# Altium integrated library Analog Devices Data Converters Digital-to-Analog Converters.IntLib: 2231 symbols (part 157 of 181)
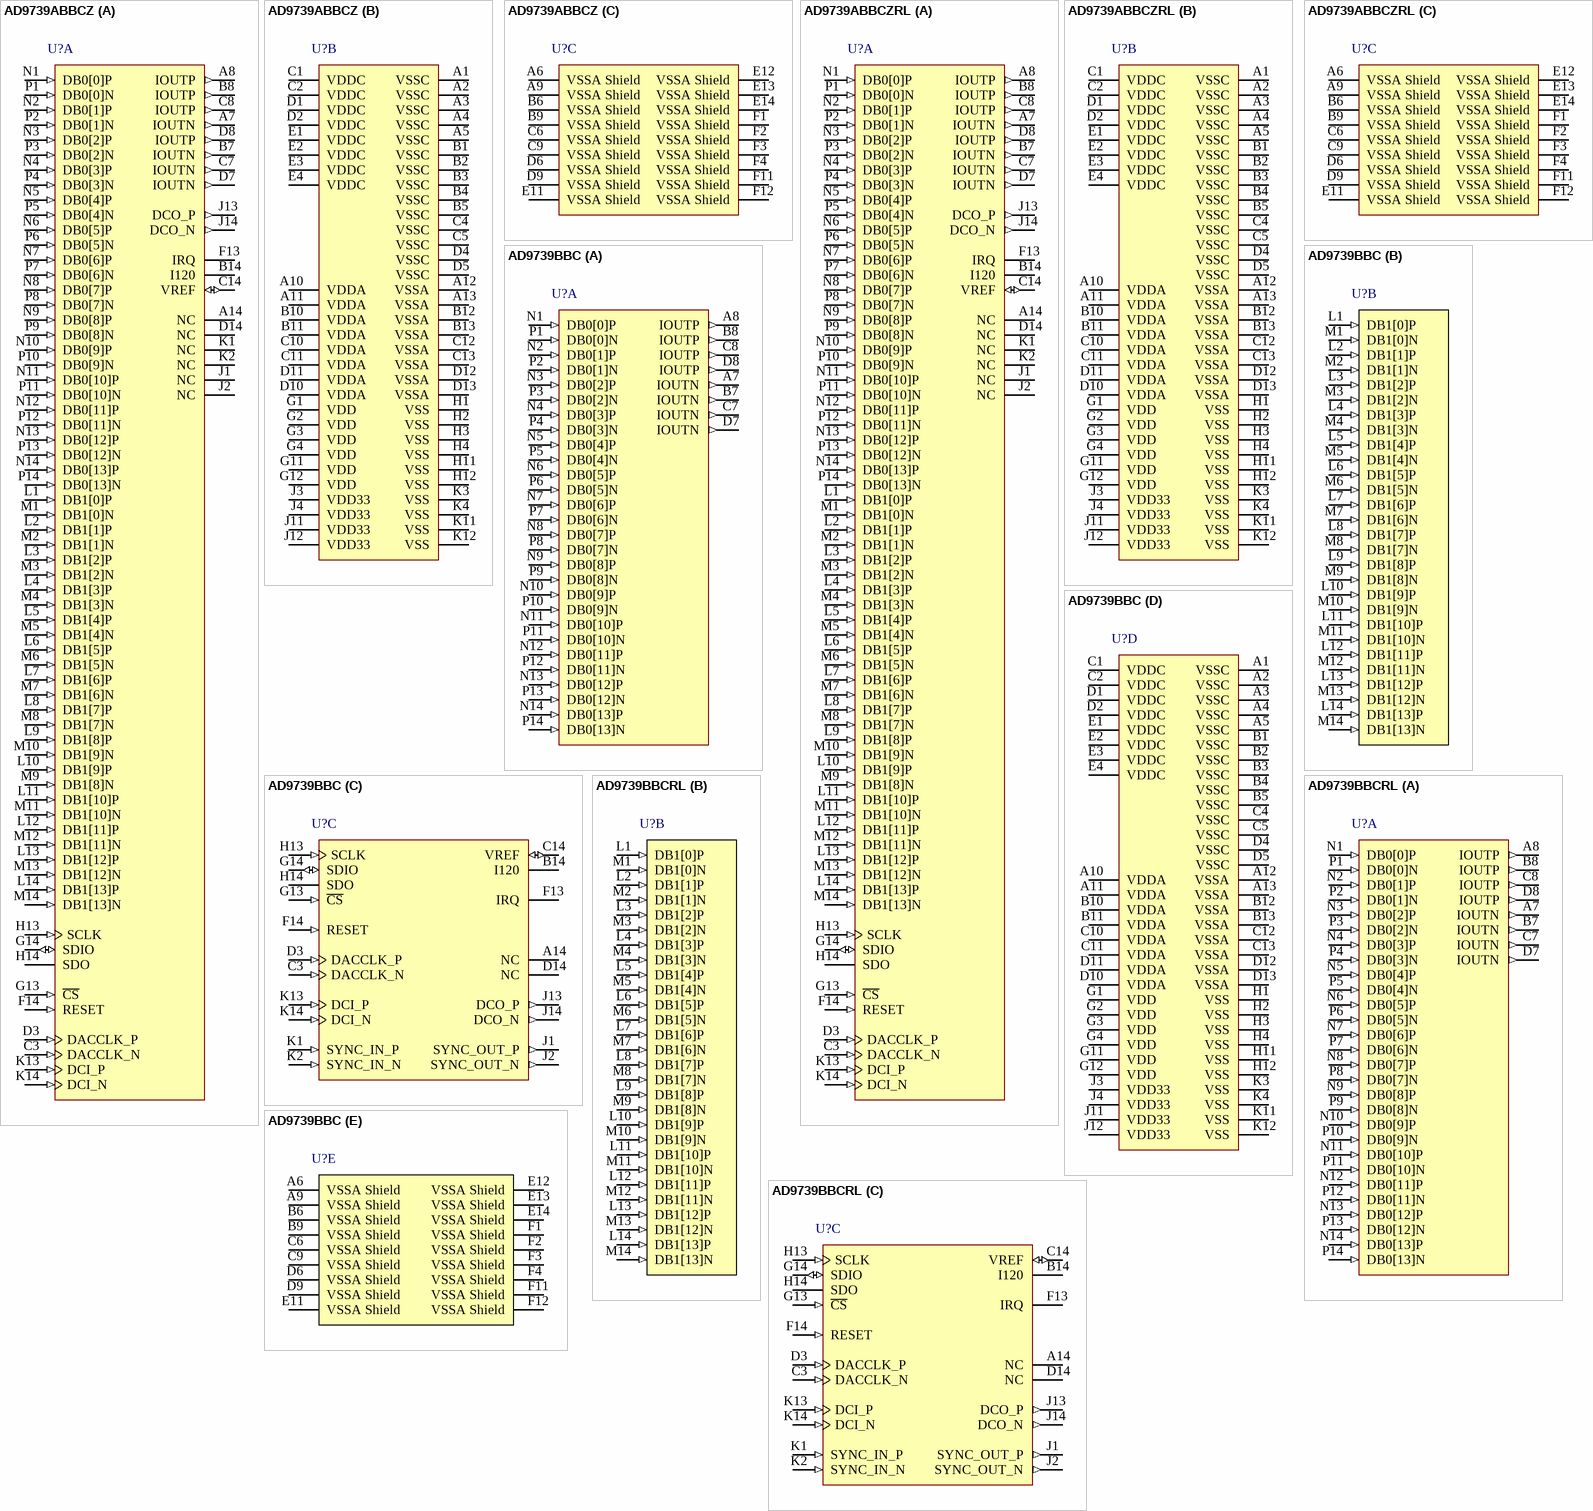
[diagram p270: symbols AD9739ABBCZ to AD9739BBCRL]

## AD9739ABBCZRL
designator U?
Single 14-Bit 2.5 Gsps RF Digital-to-Analog Converter, -40 to +85 degC, BC-160-1, Pb-Free, Reel; Generic Part Number: AD9739A; Manufacturer: Analog Devices; PartNumber: AD9739ABBCZRL; # DAC Outputs: 1; Op Pwr Diss: 960mW; Resolution (Bits): 14; Single Supply: No; DatasheetVersion: Rev.C; PackageVersion: 012006-0; PackageReference: BC-160-1; PackageDescription: 160-Ball Chip Scale Package Ball Grid Array [CSP_BGA]; Supplier 1: Digi-Key; Supplier Part Number 1: AD9739ABBCZRL-ND; Supplier 2: Mouser; Supplier Part Number 2: 584-AD9739ABBCZR; Packing: Reel; RoHS: Y; Mounting Technology: Surface Mount; Code_JEDEC: MO-205-AE; ComponentLink1Description: Manufacturer URL; ComponentLink1URL: http://www.analog.com/en/index.html; ComponentLink2Description: Datasheet; ComponentLink2URL: http://www.analog.com/static/imported-files/data_sheets/AD9737A_9739A.pdf; ComponentLink3Description: Package Specification; ComponentLink3URL: http://www.analog.com/static/imported-files/packages/31243239490197BC_160_1.pdf; ComponentLink4Description: Product URL; ComponentLink4URL: http://www.analog.com/en/digital-to-analog-converters/da-converters/ad9739a/products/product.html
footprint BC-160-1 (BGA, 160-Leads, Body 12x12mm, Pitch 0.8mm)
part A pins: A7 IOUTN (out) "DAC Negative Current Output Source.", A8 IOUTP (out) "DAC Positive Current Output Source.", A14 NC "Do not connect to this pin.", B7 IOUTN (out) "DAC Negative Current Output Source.", B8 IOUTP (out) "DAC Positive Current Output Source.", B14 I120 "Nominal 1.2 V Reference. Tie to analog ground via a 10 k ohm resistor to generate a 120 uA reference current.", C3 DACCLK_N (in) "Negative DAC Clock Input (DACCLK).", C7 IOUTN (out) "DAC Negative Current Output Source.", C8 IOUTP (out) "DAC Positive Current Output Source.", C14 VREF (io) "Voltage Reference Input/Output. Decouple to VSSA with a 1 nF capacitor.", D3 DACCLK_P (in) "Positive DAC Clock Input (DACCLK).", D7 IOUTN (out) "DAC Negative Current Output Source.", D8 IOUTP (out) "DAC Positive Current Output Source.", D14 NC "Factory Test Pin. Do not connect to this pin.", F13 IRQ (oc) "Interrupt Request Open Drain Output. Active high. Pull up to VDD33 with a 10 k ohm resistor.", F14 RESET (in) "Reset Input. Active high. Tie to VSS if unused.", G13 ~{CS} (in) "Serial Port Enable Input.", G14 SDIO (io) "Serial Port Data Input/Output.", H13 SCLK (in) "Serial Port Clock Input.", H14 SDO (hiz) "Serial Port Data Output.", J1 NC "Differential resistor of 200 ohm exists between J1 and J2. Do not connect to this pin.", J2 NC "Differential resistor of 200 ohm exists between J1 and J2. Do not connect to this pin.", J13 DCO_P (out) "Positive Data Clock Output (DCO).", J14 DCO_N (out) "Negative Data Clock Output (DCO).", K1 NC "Differential resistor of 100 ohm exists between K1 and K2. Do not connect to this pin.", K2 NC "Differential resistor of 100 ohm exists between K1 and K2. Do not connect to this pin.", K13 DCI_P (in) "Positive Data Clock Input (DCI).", K14 DCI_N (in) "Negative Data Clock Input (DCI).", L1 DB1[0]P (in) "Port 1 Positive Data Input Bit 0.", L2 DB1[1]P (in) "Port 1 Positive Data Input Bit 1.", L3 DB1[2]P (in) "Port 1 Positive Data Input Bit 2.", L4 DB1[3]P (in) "Port 1 Positive Data Input Bit 3.", L5 DB1[4]P (in) "Port 1 Positive Data Input Bit 4.", L6 DB1[5]P (in) "Port 1 Positive Data Input Bit 5.", L7 DB1[6]P (in) "Port 1 Positive Data Input Bit 6.", L8 DB1[7]P (in) "Port 1 Positive Data Input Bit 7.", L9 DB1[8]P (in) "Port 1 Positive Data Input Bit 8.", L10 DB1[9]P (in) "Port 1 Positive Data Input Bit 9.", L11 DB1[10]P (in) "Port 1 Positive Data Input Bit 10.", L12 DB1[11]P (in) "Port 1 Positive Data Input Bit 11.", L13 DB1[12]P (in) "Port 1 Positive Data Input Bit 12.", L14 DB1[13]P (in) "Port 1 Positive Data Input Bit 13.", M1 DB1[0]N (in) "Port 1 Negative Data Input Bit 0.", M2 DB1[1]N (in) "Port 1 Negative Data Input Bit 1.", M3 DB1[2]N (in) "Port 1 Negative Data Input Bit 2.", M4 DB1[3]N (in) "Port 1 Negative Data Input Bit 3.", M5 DB1[4]N (in) "Port 1 Negative Data Input Bit 4.", M6 DB1[5]N (in) "Port 1 Negative Data Input Bit 5.", M7 DB1[6]N (in) "Port 1 Negative Data Input Bit 6.", M8 DB1[7]N (in) "Port 1 Negative Data Input Bit 7.", M9 DB1[8]N (in) "Port 1 Negative Data Input Bit 8.", M10 DB1[9]N (in) "Port 1 Negative Data Input Bit 9.", M11 DB1[10]N (in) "Port 1 Negative Data Input Bit 10.", M12 DB1[11]N (in) "Port 1 Negative Data Input Bit 11.", M13 DB1[12]N (in) "Port 1 Negative Data Input Bit 12.", M14 DB1[13]N (in) "Port 1 Negative Data Input Bit 13.", N1 DB0[0]P (in) "Port 0 Positive Data Input Bit 0.", N2 DB0[1]P (in) "Port 0 Positive Data Input Bit 1.", N3 DB0[2]P (in) "Port 0 Positive Data Input Bit 2.", N4 DB0[3]P (in) "Port 0 Positive Data Input Bit 3.", N5 DB0[4]P (in) "Port 0 Positive Data Input Bit 4.", N6 DB0[5]P (in) "Port 0 Positive Data Input Bit 5.", N7 DB0[6]P (in) "Port 0 Positive Data Input Bit 6.", N8 DB0[7]P (in) "Port 0 Positive Data Input Bit 7.", N9 DB0[8]P (in) "Port 0 Positive Data Input Bit 8.", N10 DB0[9]P (in) "Port 0 Positive Data Input Bit 9.", N11 DB0[10]P (in) "Port 0 Positive Data Input Bit 10.", N12 DB0[11]P (in) "Port 0 Positive Data Input Bit 11.", N13 DB0[12]P (in) "Port 0 Positive Data Input Bit 12.", N14 DB0[13]P (in) "Port 0 Positive Data Input Bit 13.", P1 DB0[0]N (in) "Port 0 Negative Data Input Bit 0.", P2 DB0[1]N (in) "Port 0 Negative Data Input Bit 1.", P3 DB0[2]N (in) "Port 0 Negative Data Input Bit 2.", P4 DB0[3]N (in) "Port 0 Negative Data Input Bit 3.", P5 DB0[4]N (in) "Port 0 Negative Data Input Bit 4.", P6 DB0[5]N (in) "Port 0 Negative Data Input Bit 5.", P7 DB0[6]N (in) "Port 0 Negative Data Input Bit 6.", P8 DB0[7]N (in) "Port 0 Negative Data Input Bit 7.", P9 DB0[8]N (in) "Port 0 Negative Data Input Bit 8.", P10 DB0[9]N (in) "Port 0 Negative Data Input Bit 9.", P11 DB0[10]N (in) "Port 0 Negative Data Input Bit 10.", P12 DB0[11]N (in) "Port 0 Negative Data Input Bit 11.", P13 DB0[12]N (in) "Port 0 Negative Data Input Bit 12.", P14 DB0[13]N (in) "Port 0 Negative Data Input Bit 13."
part B pins: A1 VSSC (power) "Clock Supply Ground.", A2 VSSC (power) "Clock Supply Ground.", A3 VSSC (power) "Clock Supply Ground.", A4 VSSC (power) "Clock Supply Ground.", A5 VSSC (power) "Clock Supply Ground.", A10 VDDA (power) "3.3 V Analog Supply Input.", A11 VDDA (power) "3.3 V Analog Supply Input.", A12 VSSA (power) "Analog Supply Ground.", A13 VSSA (power) "Analog Supply Ground.", B1 VSSC (power) "Clock Supply Ground.", B2 VSSC (power) "Clock Supply Ground.", B3 VSSC (power) "Clock Supply Ground.", B4 VSSC (power) "Clock Supply Ground.", B5 VSSC (power) "Clock Supply Ground.", B10 VDDA (power) "3.3 V Analog Supply Input.", B11 VDDA (power) "3.3 V Analog Supply Input.", B12 VSSA (power) "Analog Supply Ground.", B13 VSSA (power) "Analog Supply Ground.", C1 VDDC (power) "1.8 V Clock Supply Input.", C2 VDDC (power) "1.8 V Clock Supply Input.", C4 VSSC (power) "Clock Supply Ground.", C5 VSSC (power) "Clock Supply Ground.", C10 VDDA (power) "3.3 V Analog Supply Input.", C11 VDDA (power) "3.3 V Analog Supply Input.", C12 VSSA (power) "Analog Supply Ground.", C13 VSSA (power) "Analog Supply Ground.", D1 VDDC (power) "1.8 V Clock Supply Input.", D2 VDDC (power) "1.8 V Clock Supply Input.", D4 VSSC (power) "Clock Supply Ground.", D5 VSSC (power) "Clock Supply Ground.", D10 VDDA (power) "3.3 V Analog Supply Input.", D11 VDDA (power) "3.3 V Analog Supply Input.", D12 VSSA (power) "Analog Supply Ground.", D13 VSSA (power) "Analog Supply Ground.", E1 VDDC (power) "1.8 V Clock Supply Input.", E2 VDDC (power) "1.8 V Clock Supply Input.", E3 VDDC (power) "1.8 V Clock Supply Input.", E4 VDDC (power) "1.8 V Clock Supply Input.", G1 VDD (power) "1.8 V Digital Supply Input.", G2 VDD (power) "1.8 V Digital Supply Input.", G3 VDD (power) "1.8 V Digital Supply Input.", G4 VDD (power) "1.8 V Digital Supply Input.", G11 VDD (power) "1.8 V Digital Supply Input.", G12 VDD (power) "1.8 V Digital Supply Input.", H1 VSS (power) "Digital Supply Ground.", H2 VSS (power) "Digital Supply Ground.", H3 VSS (power) "Digital Supply Ground.", H4 VSS (power) "Digital Supply Ground.", H11 VSS (power) "Digital Supply Ground.", H12 VSS (power) "Digital Supply Ground.", J3 VDD33 (power) "3.3 V Digital Supply Input.", J4 VDD33 (power) "3.3 V Digital Supply Input.", J11 VDD33 (power) "3.3 V Digital Supply Input.", J12 VDD33 (power) "3.3 V Digital Supply Input.", K3 VSS (power) "Digital Supply Ground.", K4 VSS (power) "Digital Supply Ground.", K11 VSS (power) "Digital Supply Ground.", K12 VSS (power) "Digital Supply Ground."
part C pins: A6 VSSA Shield (power) "Analog Supply Ground Shield. Tie to VSSA at the DAC.", A9 VSSA Shield (power) "Analog Supply Ground Shield. Tie to VSSA at the DAC.", B6 VSSA Shield (power) "Analog Supply Ground Shield. Tie to VSSA at the DAC.", B9 VSSA Shield (power) "Analog Supply Ground Shield. Tie to VSSA at the DAC.", C6 VSSA Shield (power) "Analog Supply Ground Shield. Tie to VSSA at the DAC.", C9 VSSA Shield (power) "Analog Supply Ground Shield. Tie to VSSA at the DAC.", D6 VSSA Shield (power) "Analog Supply Ground Shield. Tie to VSSA at the DAC.", D9 VSSA Shield (power) "Analog Supply Ground Shield. Tie to VSSA at the DAC.", E11 VSSA Shield (power) "Analog Supply Ground Shield. Tie to VSSA at the DAC.", E12 VSSA Shield (power) "Analog Supply Ground Shield. Tie to VSSA at the DAC.", E13 VSSA Shield (power) "Analog Supply Ground Shield. Tie to VSSA at the DAC.", E14 VSSA Shield (power) "Analog Supply Ground Shield. Tie to VSSA at the DAC.", F1 VSSA Shield (power) "Analog Supply Ground Shield. Tie to VSSA at the DAC.", F2 VSSA Shield (power) "Analog Supply Ground Shield. Tie to VSSA at the DAC.", F3 VSSA Shield (power) "Analog Supply Ground Shield. Tie to VSSA at the DAC.", F4 VSSA Shield (power) "Analog Supply Ground Shield. Tie to VSSA at the DAC.", F11 VSSA Shield (power) "Analog Supply Ground Shield. Tie to VSSA at the DAC.", F12 VSSA Shield (power) "Analog Supply Ground Shield. Tie to VSSA at the DAC."

## AD9739BBC
designator U?
Single 14-Bit 2.5 Gsps RF Digital-to-Analog Converter, -40 to +85 degC, BC-160-1, Tray; Generic Part Number: AD9739; Manufacturer: Analog Devices; PartNumber: AD9739BBC; # DAC Outputs: 1; Max V+: 3.5V; Op Pwr Diss: 1.16W; Resolution (Bits): 14; Single Supply: Yes; DatasheetVersion: Rev.B; PackageVersion: 012006-0; PackageReference: BC-160-1; PackageDescription: 160-Ball Chip Scale Package Ball Grid Array [CSP_BGA]; Supplier 1: Digi-Key; Supplier Part Number 1: AD9739BBC-ND; Supplier 2: Newark; Supplier Part Number 2: 05R6611; Supplier 3: Mouser; Supplier Part Number 3: 584-AD9739BBC; Packing: Tray; RoHS: N; Mounting Technology: Surface Mount; Code_JEDEC: MO-205-AE; ComponentLink1Description: Manufacturer URL; ComponentLink1URL: http://www.analog.com/en/index.html; ComponentLink2Description: Datasheet; ComponentLink2URL: http://www.analog.com/static/imported-files/data_sheets/AD9739.pdf; ComponentLink3Description: Package Specification; ComponentLink3URL: http://www.analog.com/static/imported-files/packages/31243239490197BC_160_1.pdf; ComponentLink4Description: Product URL; ComponentLink4URL: http://www.analog.com/en/digital-to-analog-converters/da-converters/ad9739/products/product.html
footprint BC-160-1 (BGA, 160-Leads, Body 12x12mm, Pitch 0.8mm)
part A pins: A7 IOUTN (out) "DAC Negative Current Output Source.", A8 IOUTP (out) "DAC Positive Current Output Source.", B7 IOUTN (out) "DAC Negative Current Output Source.", B8 IOUTP (out) "DAC Positive Current Output Source.", C7 IOUTN (out) "DAC Negative Current Output Source.", C8 IOUTP (out) "DAC Positive Current Output Source.", D7 IOUTN (out) "DAC Negative Current Output Source.", D8 IOUTP (out) "DAC Positive Current Output Source.", N1 DB0[0]P (in) "Port 0 Positive Data Input Bit 0.", N2 DB0[1]P (in) "Port 0 Positive Data Input Bit 1.", N3 DB0[2]P (in) "Port 0 Positive Data Input Bit 2.", N4 DB0[3]P (in) "Port 0 Positive Data Input Bit 3.", N5 DB0[4]P (in) "Port 0 Positive Data Input Bit 4.", N6 DB0[5]P (in) "Port 0 Positive Data Input Bit 5.", N7 DB0[6]P (in) "Port 0 Positive Data Input Bit 6.", N8 DB0[7]P (in) "Port 0 Positive Data Input Bit 7.", N9 DB0[8]P (in) "Port 0 Positive Data Input Bit 8.", N10 DB0[9]P (in) "Port 0 Positive Data Input Bit 9.", N11 DB0[10]P (in) "Port 0 Positive Data Input Bit 10.", N12 DB0[11]P (in) "Port 0 Positive Data Input Bit 11.", N13 DB0[12]P (in) "Port 0 Positive Data Input Bit 12.", N14 DB0[13]P (in) "Port 0 Negative Data Input Bit 13.", P1 DB0[0]N (in) "Port 0 Negative Data Input Bit 0.", P2 DB0[1]N (in) "Port 0 Negative Data Input Bit 1.", P3 DB0[2]N (in) "Port 0 Negative Data Input Bit 2.", P4 DB0[3]N (in) "Port 0 Negative Data Input Bit 3.", P5 DB0[4]N (in) "Port 0 Negative Data Input Bit 4.", P6 DB0[5]N (in) "Port 0 Negative Data Input Bit 5.", P7 DB0[6]N (in) "Port 0 Negative Data Input Bit 6.", P8 DB0[7]N (in) "Port 0 Negative Data Input Bit 7.", P9 DB0[8]N (in) "Port 0 Negative Data Input Bit 8.", P10 DB0[9]N (in) "Port 0 Negative Data Input Bit 9.", P11 DB0[10]N (in) "Port 0 Negative Data Input Bit 10.", P12 DB0[11]N (in) "Port 0 Negative Data Input Bit 11.", P13 DB0[12]N (in) "Port 0 Negative Data Input Bit 12.", P14 DB0[13]N (in) "Port 0 Negative Data Input Bit 13."
part B pins: L1 DB1[0]P (in) "Port 1 Positive Data Input Bit 0.", L2 DB1[1]P (in) "Port 1 Positive Data Input Bit 1.", L3 DB1[2]P (in) "Port 1 Positive Data Input Bit 2.", L4 DB1[3]P (in) "Port 1 Positive Data Input Bit 3.", L5 DB1[4]P (in) "Port 1 Positive Data Input Bit 4.", L6 DB1[5]P (in) "Port 1 Positive Data Input Bit 5.", L7 DB1[6]P (in) "Port 1 Positive Data Input Bit 6.", L8 DB1[7]P (in) "Port 1 Positive Data Input Bit 7.", L9 DB1[8]P (in) "Port 1 Positive Data Input Bit 8.", L10 DB1[9]P (in) "Port 1 Positive Data Input Bit 9.", L11 DB1[10]P (in) "Port 1 Positive Data Input Bit 10.", L12 DB1[11]P (in) "Port 1 Positive Data Input Bit 11.", L13 DB1[12]P (in) "Port 1 Positive Data Input Bit 12.", L14 DB1[13]P (in) "Port 1 Positive Data Input Bit 13.", M1 DB1[0]N (in) "Port 1 Negative Data Input Bit 0.", M2 DB1[1]N (in) "Port 1 Negative Data Input Bit 1.", M3 DB1[2]N (in) "Port 1 Negative Data Input Bit 2.", M4 DB1[3]N (in) "Port 1 Negative Data Input Bit 3.", M5 DB1[4]N (in) "Port 1 Negative Data Input Bit 4.", M6 DB1[5]N (in) "Port 1 Negative Data Input Bit 5.", M7 DB1[6]N (in) "Port 1 Negative Data Input Bit 6.", M8 DB1[7]N (in) "Port 1 Negative Data Input Bit 7.", M9 DB1[8]N (in) "Port 1 Negative Data Input Bit 8.", M10 DB1[9]N (in) "Port 1 Negative Data Input Bit 9.", M11 DB1[10]N (in) "Port 1 Negative Data Input Bit 10.", M12 DB1[11]N (in) "Port 1 Negative Data Input Bit 11.", M13 DB1[12]N (in) "Port 1 Negative Data Input Bit 12.", M14 DB1[13]N (in) "Port 1 Negative Data Input Bit 13."
part C pins: A14 NC "No Connect. Do not connect to this pin.", B14 I120 "Nominal 1.2 V Reference. Tie to analog ground via a 10 kO  resistor to generate a 120 uA reference current.", C3 DACCLK_N (in) "Negative DAC Clock Input (DACCLK)", C14 VREF (io) "Voltage Reference Input/Output. Decouple to VSSA with a  1 nF capacitor.", D3 DACCLK_P (in) "Positive DAC Clock Input (DACCLK)", D14 NC "Factory Test Pin. Do not connect to this pin.", F13 IRQ (oc) "Interrupt Request Open Drain Output. Active high. Pull up to  VDD33 with a 10 kO resistor.", F14 RESET (in) "Reset Input. Active high. Tie to VSS if unused.", G13 ~{CS} (in) "Serial Port Enable Input", G14 SDIO (io) "Serial Port Data Input/Output.", H13 SCLK (in) "Serial Port Clock Input.", H14 SDO (hiz) "Serial Port Data Output.", J1 SYNC_OUT_P (out) "Positive SYNC Output (SYNC_OUT)", J2 SYNC_OUT_N (out) "Negative SYNC Output (SYNC_OUT)", J13 DCO_P (out) "Positive Data Clock Output (DCO).", J14 DCO_N (out) "Negative Data Clock Output (DCO).", K1 SYNC_IN_P (in) "Positive SYNC Input (SYNC_IN)", K2 SYNC_IN_N (in) "Negative SYNC Input (SYNC_IN)", K13 DCI_P (in) "Positive Data Clock Input (DCI).", K14 DCI_N (in) "Negative Data Clock Input (DCI)."
part D pins: A1 VSSC (power) "Clock Supply Return.", A2 VSSC (power) "Clock Supply Return.", A3 VSSC (power) "Clock Supply Return.", A4 VSSC (power) "Clock Supply Return.", A5 VSSC (power) "Clock Supply Return.", A10 VDDA (power) "3.3 V Analog Supply Input", A11 VDDA (power) "3.3 V Analog Supply Input", A12 VSSA (power) "Analog Supply Return.", A13 VSSA (power) "Analog Supply Return.", B1 VSSC (power) "Clock Supply Return.", B2 VSSC (power) "Clock Supply Return.", B3 VSSC (power) "Clock Supply Return.", B4 VSSC (power) "Clock Supply Return.", B5 VSSC (power) "Clock Supply Return.", B10 VDDA (power) "3.3 V Analog Supply Input", B11 VDDA (power) "3.3 V Analog Supply Input", B12 VSSA (power) "Analog Supply Return.", B13 VSSA (power) "Analog Supply Return.", C1 VDDC (power) "1.8 V Clock Supply Input.", C2 VDDC (power) "1.8 V Clock Supply Input.", C4 VSSC (power) "Clock Supply Return.", C5 VSSC (power) "Clock Supply Return.", C10 VDDA (power) "3.3 V Analog Supply Input", C11 VDDA (power) "3.3 V Analog Supply Input", C12 VSSA (power) "Analog Supply Return.", C13 VSSA (power) "Analog Supply Return.", D1 VDDC (power) "1.8 V Clock Supply Input.", D2 VDDC (power) "1.8 V Clock Supply Input.", D4 VSSC (power) "Clock Supply Return.", D5 VSSC (power) "Clock Supply Return.", D10 VDDA (power) "3.3 V Analog Supply Input", D11 VDDA (power) "3.3 V Analog Supply Input", D12 VSSA (power) "Analog Supply Return.", D13 VSSA (power) "Analog Supply Return.", E1 VDDC (power) "1.8 V Clock Supply Input.", E2 VDDC (power) "1.8 V Clock Supply Input.", E3 VDDC (power) "1.8 V Clock Supply Input.", E4 VDDC (power) "1.8 V Clock Supply Input.", G1 VDD (power) "1.8 V Digital Supply. Input.", G2 VDD (power) "1.8 V Digital Supply. Input.", G3 VDD (power) "1.8 V Digital Supply. Input.", G4 VDD (power) "1.8 V Digital Supply. Input.", G11 VDD (power) "1.8 V Digital Supply. Input.", G12 VDD (power) "1.8 V Digital Supply. Input.", H1 VSS (power) "Digital Supply Return.", H2 VSS (power) "Digital Supply Return.", H3 VSS (power) "Digital Supply Return.", H4 VSS (power) "Digital Supply Return.", H11 VSS (power) "Digital Supply Return.", H12 VSS (power) "Digital Supply Return.", J3 VDD33 (power) "3.3 V Digital Supply Input.", J4 VDD33 (power) "3.3 V Digital Supply Input.", J11 VDD33 (power) "3.3 V Digital Supply Input.", J12 VDD33 (power) "3.3 V Digital Supply Input.", K3 VSS (power) "Digital Supply Return.", K4 VSS (power) "Digital Supply Return.", K11 VSS (power) "Digital Supply Return.", K12 VSS (power) "Digital Supply Return."
part E pins: A6 VSSA Shield (power) "Analog Supply Return Shield. Tie to VSSA at the DAC.", A9 VSSA Shield (power) "Analog Supply Return Shield. Tie to VSSA at the DAC.", B6 VSSA Shield (power) "Analog Supply Return Shield. Tie to VSSA at the DAC.", B9 VSSA Shield (power) "Analog Supply Return Shield. Tie to VSSA at the DAC.", C6 VSSA Shield (power) "Analog Supply Return Shield. Tie to VSSA at the DAC.", C9 VSSA Shield (power) "Analog Supply Return Shield. Tie to VSSA at the DAC.", D6 VSSA Shield (power) "Analog Supply Return Shield. Tie to VSSA at the DAC.", D9 VSSA Shield (power) "Analog Supply Return Shield. Tie to VSSA at the DAC.", E11 VSSA Shield (power) "Analog Supply Return Shield. Tie to VSSA at the DAC.", E12 VSSA Shield (power) "Analog Supply Return Shield. Tie to VSSA at the DAC.", E13 VSSA Shield (power) "Analog Supply Return Shield. Tie to VSSA at the DAC.", E14 VSSA Shield (power) "Analog Supply Return Shield. Tie to VSSA at the DAC.", F1 VSSA Shield (power) "Analog Supply Return Shield. Tie to VSSA at the DAC.", F2 VSSA Shield (power) "Analog Supply Return Shield. Tie to VSSA at the DAC.", F3 VSSA Shield (power) "Analog Supply Return Shield. Tie to VSSA at the DAC.", F4 VSSA Shield (power) "Analog Supply Return Shield. Tie to VSSA at the DAC.", F11 VSSA Shield (power) "Analog Supply Return Shield. Tie to VSSA at the DAC.", F12 VSSA Shield (power) "Analog Supply Return Shield. Tie to VSSA at the DAC."

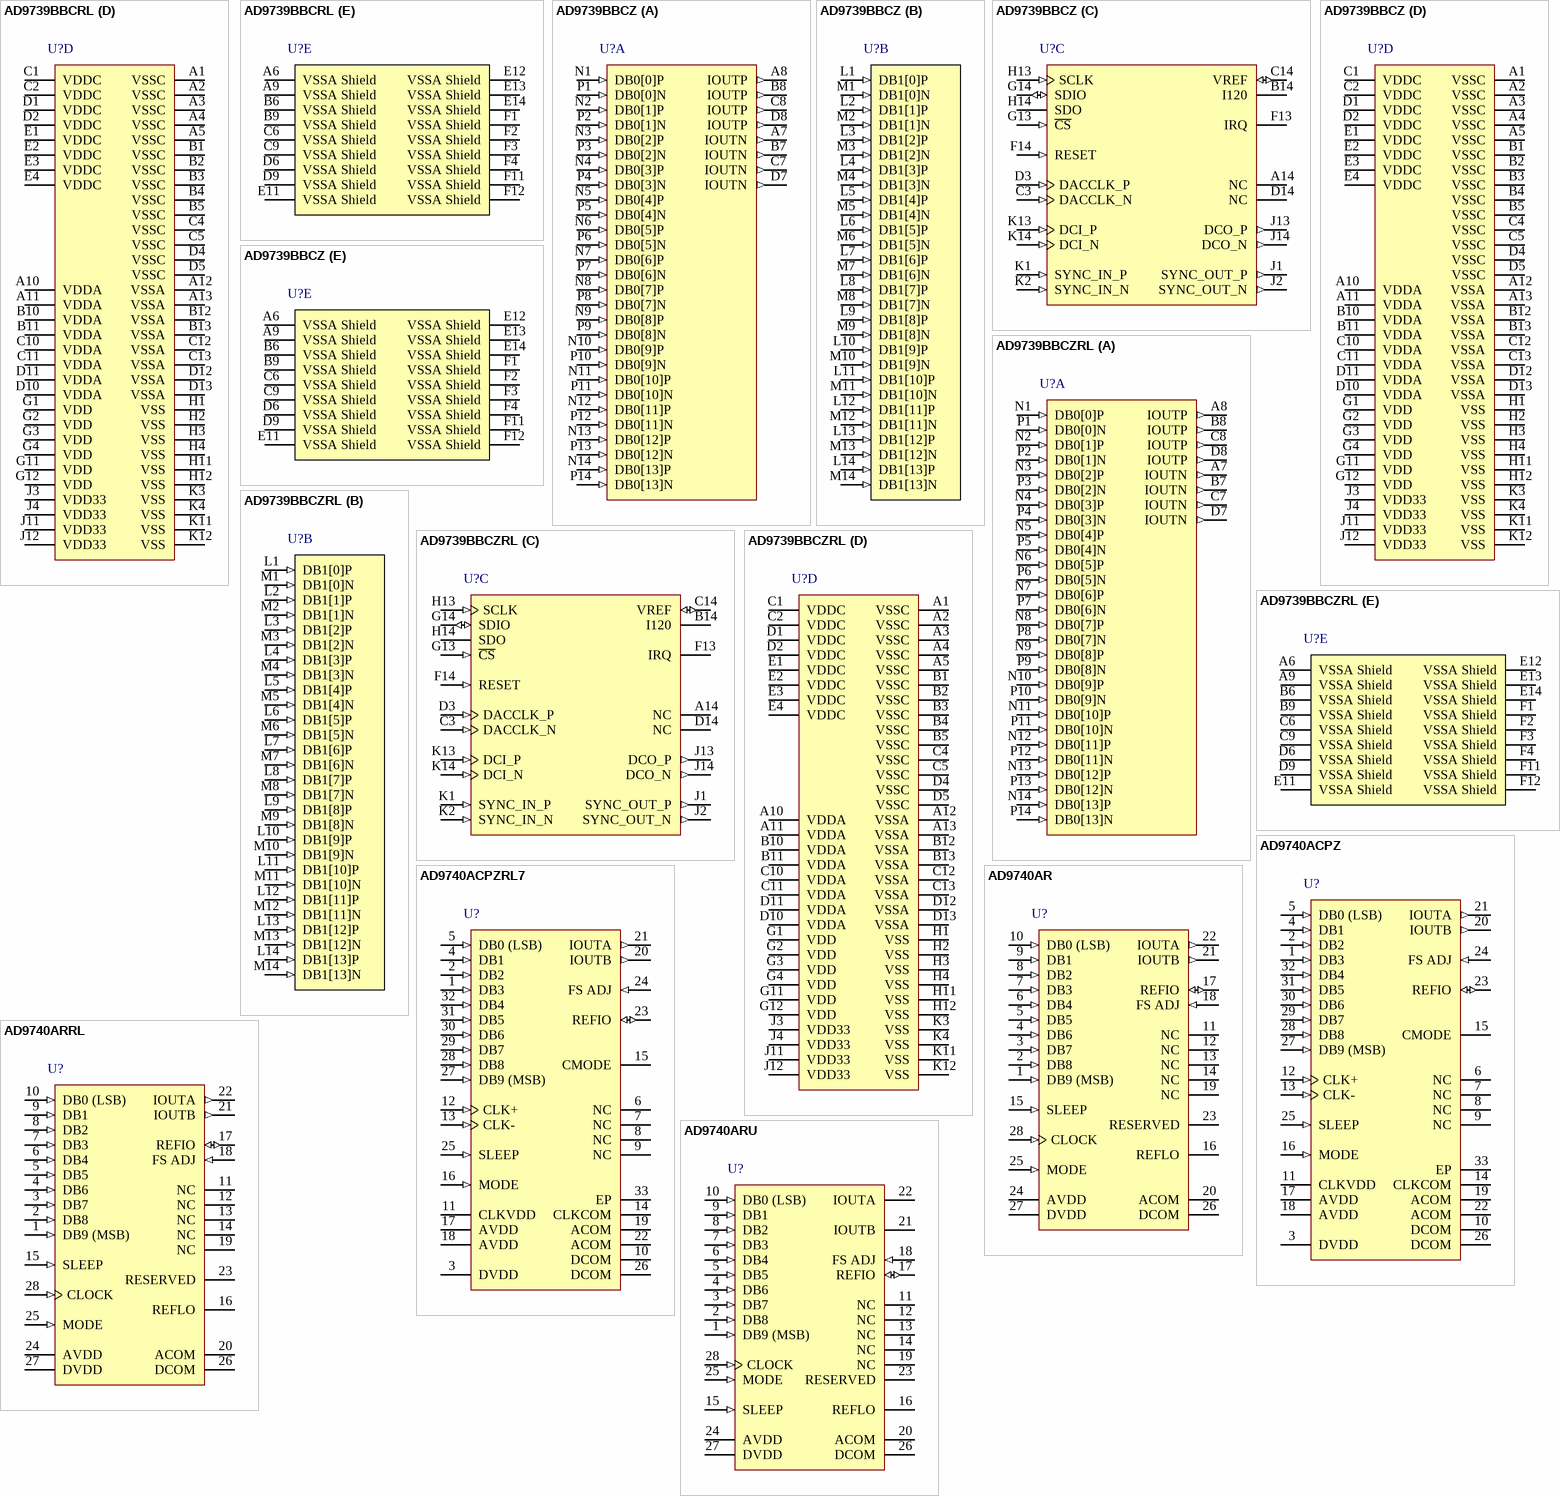
[diagram p93: symbols AD9739BBCRL to AD9740ARU]

## AD9739BBCRL
designator U?
Single 14-Bit 2.5 Gsps RF Digital-to-Analog Converter, -40 to +85 degC, BC-160-1, Reel; Generic Part Number: AD9739; Manufacturer: Analog Devices; PartNumber: AD9739BBCRL; # DAC Outputs: 1; Max V+: 3.5V; Op Pwr Diss: 1.16W; Resolution (Bits): 14; Single Supply: Yes; DatasheetVersion: Rev.B; PackageVersion: 012006-0; PackageReference: BC-160-1; PackageDescription: 160-Ball Chip Scale Package Ball Grid Array [CSP_BGA]; Supplier 1: Digi-Key; Supplier Part Number 1: AD9739BBCRL-ND; Supplier 2: Mouser; Supplier Part Number 2: 584-AD9739BBCR; Packing: Reel; RoHS: N; Mounting Technology: Surface Mount; Code_JEDEC: MO-205-AE; ComponentLink1Description: Manufacturer URL; ComponentLink1URL: http://www.analog.com/en/index.html; ComponentLink2Description: Datasheet; ComponentLink2URL: http://www.analog.com/static/imported-files/data_sheets/AD9739.pdf; ComponentLink3Description: Package Specification; ComponentLink3URL: http://www.analog.com/static/imported-files/packages/31243239490197BC_160_1.pdf; ComponentLink4Description: Product URL; ComponentLink4URL: http://www.analog.com/en/digital-to-analog-converters/da-converters/ad9739/products/product.html
footprint BC-160-1 (BGA, 160-Leads, Body 12x12mm, Pitch 0.8mm)
part A pins: A7 IOUTN (out) "DAC Negative Current Output Source.", A8 IOUTP (out) "DAC Positive Current Output Source.", B7 IOUTN (out) "DAC Negative Current Output Source.", B8 IOUTP (out) "DAC Positive Current Output Source.", C7 IOUTN (out) "DAC Negative Current Output Source.", C8 IOUTP (out) "DAC Positive Current Output Source.", D7 IOUTN (out) "DAC Negative Current Output Source.", D8 IOUTP (out) "DAC Positive Current Output Source.", N1 DB0[0]P (in) "Port 0 Positive Data Input Bit 0.", N2 DB0[1]P (in) "Port 0 Positive Data Input Bit 1.", N3 DB0[2]P (in) "Port 0 Positive Data Input Bit 2.", N4 DB0[3]P (in) "Port 0 Positive Data Input Bit 3.", N5 DB0[4]P (in) "Port 0 Positive Data Input Bit 4.", N6 DB0[5]P (in) "Port 0 Positive Data Input Bit 5.", N7 DB0[6]P (in) "Port 0 Positive Data Input Bit 6.", N8 DB0[7]P (in) "Port 0 Positive Data Input Bit 7.", N9 DB0[8]P (in) "Port 0 Positive Data Input Bit 8.", N10 DB0[9]P (in) "Port 0 Positive Data Input Bit 9.", N11 DB0[10]P (in) "Port 0 Positive Data Input Bit 10.", N12 DB0[11]P (in) "Port 0 Positive Data Input Bit 11.", N13 DB0[12]P (in) "Port 0 Positive Data Input Bit 12.", N14 DB0[13]P (in) "Port 0 Negative Data Input Bit 13.", P1 DB0[0]N (in) "Port 0 Negative Data Input Bit 0.", P2 DB0[1]N (in) "Port 0 Negative Data Input Bit 1.", P3 DB0[2]N (in) "Port 0 Negative Data Input Bit 2.", P4 DB0[3]N (in) "Port 0 Negative Data Input Bit 3.", P5 DB0[4]N (in) "Port 0 Negative Data Input Bit 4.", P6 DB0[5]N (in) "Port 0 Negative Data Input Bit 5.", P7 DB0[6]N (in) "Port 0 Negative Data Input Bit 6.", P8 DB0[7]N (in) "Port 0 Negative Data Input Bit 7.", P9 DB0[8]N (in) "Port 0 Negative Data Input Bit 8.", P10 DB0[9]N (in) "Port 0 Negative Data Input Bit 9.", P11 DB0[10]N (in) "Port 0 Negative Data Input Bit 10.", P12 DB0[11]N (in) "Port 0 Negative Data Input Bit 11.", P13 DB0[12]N (in) "Port 0 Negative Data Input Bit 12.", P14 DB0[13]N (in) "Port 0 Negative Data Input Bit 13."
part B pins: L1 DB1[0]P (in) "Port 1 Positive Data Input Bit 0.", L2 DB1[1]P (in) "Port 1 Positive Data Input Bit 1.", L3 DB1[2]P (in) "Port 1 Positive Data Input Bit 2.", L4 DB1[3]P (in) "Port 1 Positive Data Input Bit 3.", L5 DB1[4]P (in) "Port 1 Positive Data Input Bit 4.", L6 DB1[5]P (in) "Port 1 Positive Data Input Bit 5.", L7 DB1[6]P (in) "Port 1 Positive Data Input Bit 6.", L8 DB1[7]P (in) "Port 1 Positive Data Input Bit 7.", L9 DB1[8]P (in) "Port 1 Positive Data Input Bit 8.", L10 DB1[9]P (in) "Port 1 Positive Data Input Bit 9.", L11 DB1[10]P (in) "Port 1 Positive Data Input Bit 10.", L12 DB1[11]P (in) "Port 1 Positive Data Input Bit 11.", L13 DB1[12]P (in) "Port 1 Positive Data Input Bit 12.", L14 DB1[13]P (in) "Port 1 Positive Data Input Bit 13.", M1 DB1[0]N (in) "Port 1 Negative Data Input Bit 0.", M2 DB1[1]N (in) "Port 1 Negative Data Input Bit 1.", M3 DB1[2]N (in) "Port 1 Negative Data Input Bit 2.", M4 DB1[3]N (in) "Port 1 Negative Data Input Bit 3.", M5 DB1[4]N (in) "Port 1 Negative Data Input Bit 4.", M6 DB1[5]N (in) "Port 1 Negative Data Input Bit 5.", M7 DB1[6]N (in) "Port 1 Negative Data Input Bit 6.", M8 DB1[7]N (in) "Port 1 Negative Data Input Bit 7.", M9 DB1[8]N (in) "Port 1 Negative Data Input Bit 8.", M10 DB1[9]N (in) "Port 1 Negative Data Input Bit 9.", M11 DB1[10]N (in) "Port 1 Negative Data Input Bit 10.", M12 DB1[11]N (in) "Port 1 Negative Data Input Bit 11.", M13 DB1[12]N (in) "Port 1 Negative Data Input Bit 12.", M14 DB1[13]N (in) "Port 1 Negative Data Input Bit 13."
part C pins: A14 NC "No Connect. Do not connect to this pin.", B14 I120 "Nominal 1.2 V Reference. Tie to analog ground via a 10 kO  resistor to generate a 120 uA reference current.", C3 DACCLK_N (in) "Negative DAC Clock Input (DACCLK)", C14 VREF (io) "Voltage Reference Input/Output. Decouple to VSSA with a  1 nF capacitor.", D3 DACCLK_P (in) "Positive DAC Clock Input (DACCLK)", D14 NC "Factory Test Pin. Do not connect to this pin.", F13 IRQ (oc) "Interrupt Request Open Drain Output. Active high. Pull up to  VDD33 with a 10 kO resistor.", F14 RESET (in) "Reset Input. Active high. Tie to VSS if unused.", G13 ~{CS} (in) "Serial Port Enable Input", G14 SDIO (io) "Serial Port Data Input/Output.", H13 SCLK (in) "Serial Port Clock Input.", H14 SDO (hiz) "Serial Port Data Output.", J1 SYNC_OUT_P (out) "Positive SYNC Output (SYNC_OUT)", J2 SYNC_OUT_N (out) "Negative SYNC Output (SYNC_OUT)", J13 DCO_P (out) "Positive Data Clock Output (DCO).", J14 DCO_N (out) "Negative Data Clock Output (DCO).", K1 SYNC_IN_P (in) "Positive SYNC Input (SYNC_IN)", K2 SYNC_IN_N (in) "Negative SYNC Input (SYNC_IN)", K13 DCI_P (in) "Positive Data Clock Input (DCI).", K14 DCI_N (in) "Negative Data Clock Input (DCI)."
part D pins: A1 VSSC (power) "Clock Supply Return.", A2 VSSC (power) "Clock Supply Return.", A3 VSSC (power) "Clock Supply Return.", A4 VSSC (power) "Clock Supply Return.", A5 VSSC (power) "Clock Supply Return.", A10 VDDA (power) "3.3 V Analog Supply Input", A11 VDDA (power) "3.3 V Analog Supply Input", A12 VSSA (power) "Analog Supply Return.", A13 VSSA (power) "Analog Supply Return.", B1 VSSC (power) "Clock Supply Return.", B2 VSSC (power) "Clock Supply Return.", B3 VSSC (power) "Clock Supply Return.", B4 VSSC (power) "Clock Supply Return.", B5 VSSC (power) "Clock Supply Return.", B10 VDDA (power) "3.3 V Analog Supply Input", B11 VDDA (power) "3.3 V Analog Supply Input", B12 VSSA (power) "Analog Supply Return.", B13 VSSA (power) "Analog Supply Return.", C1 VDDC (power) "1.8 V Clock Supply Input.", C2 VDDC (power) "1.8 V Clock Supply Input.", C4 VSSC (power) "Clock Supply Return.", C5 VSSC (power) "Clock Supply Return.", C10 VDDA (power) "3.3 V Analog Supply Input", C11 VDDA (power) "3.3 V Analog Supply Input", C12 VSSA (power) "Analog Supply Return.", C13 VSSA (power) "Analog Supply Return.", D1 VDDC (power) "1.8 V Clock Supply Input.", D2 VDDC (power) "1.8 V Clock Supply Input.", D4 VSSC (power) "Clock Supply Return.", D5 VSSC (power) "Clock Supply Return.", D10 VDDA (power) "3.3 V Analog Supply Input", D11 VDDA (power) "3.3 V Analog Supply Input", D12 VSSA (power) "Analog Supply Return.", D13 VSSA (power) "Analog Supply Return.", E1 VDDC (power) "1.8 V Clock Supply Input.", E2 VDDC (power) "1.8 V Clock Supply Input.", E3 VDDC (power) "1.8 V Clock Supply Input.", E4 VDDC (power) "1.8 V Clock Supply Input.", G1 VDD (power) "1.8 V Digital Supply. Input.", G2 VDD (power) "1.8 V Digital Supply. Input.", G3 VDD (power) "1.8 V Digital Supply. Input.", G4 VDD (power) "1.8 V Digital Supply. Input.", G11 VDD (power) "1.8 V Digital Supply. Input.", G12 VDD (power) "1.8 V Digital Supply. Input.", H1 VSS (power) "Digital Supply Return.", H2 VSS (power) "Digital Supply Return.", H3 VSS (power) "Digital Supply Return.", H4 VSS (power) "Digital Supply Return.", H11 VSS (power) "Digital Supply Return.", H12 VSS (power) "Digital Supply Return.", J3 VDD33 (power) "3.3 V Digital Supply Input.", J4 VDD33 (power) "3.3 V Digital Supply Input.", J11 VDD33 (power) "3.3 V Digital Supply Input.", J12 VDD33 (power) "3.3 V Digital Supply Input.", K3 VSS (power) "Digital Supply Return.", K4 VSS (power) "Digital Supply Return.", K11 VSS (power) "Digital Supply Return.", K12 VSS (power) "Digital Supply Return."
part E pins: A6 VSSA Shield (power) "Analog Supply Return Shield. Tie to VSSA at the DAC.", A9 VSSA Shield (power) "Analog Supply Return Shield. Tie to VSSA at the DAC.", B6 VSSA Shield (power) "Analog Supply Return Shield. Tie to VSSA at the DAC.", B9 VSSA Shield (power) "Analog Supply Return Shield. Tie to VSSA at the DAC.", C6 VSSA Shield (power) "Analog Supply Return Shield. Tie to VSSA at the DAC.", C9 VSSA Shield (power) "Analog Supply Return Shield. Tie to VSSA at the DAC.", D6 VSSA Shield (power) "Analog Supply Return Shield. Tie to VSSA at the DAC.", D9 VSSA Shield (power) "Analog Supply Return Shield. Tie to VSSA at the DAC.", E11 VSSA Shield (power) "Analog Supply Return Shield. Tie to VSSA at the DAC.", E12 VSSA Shield (power) "Analog Supply Return Shield. Tie to VSSA at the DAC.", E13 VSSA Shield (power) "Analog Supply Return Shield. Tie to VSSA at the DAC.", E14 VSSA Shield (power) "Analog Supply Return Shield. Tie to VSSA at the DAC.", F1 VSSA Shield (power) "Analog Supply Return Shield. Tie to VSSA at the DAC.", F2 VSSA Shield (power) "Analog Supply Return Shield. Tie to VSSA at the DAC.", F3 VSSA Shield (power) "Analog Supply Return Shield. Tie to VSSA at the DAC.", F4 VSSA Shield (power) "Analog Supply Return Shield. Tie to VSSA at the DAC.", F11 VSSA Shield (power) "Analog Supply Return Shield. Tie to VSSA at the DAC.", F12 VSSA Shield (power) "Analog Supply Return Shield. Tie to VSSA at the DAC."

## AD9739BBCZ
designator U?
Single 14-Bit 2.5 Gsps RF Digital-to-Analog Converter, -40 to +85 degC, BC-160-1, Pb-Free, Tray; Generic Part Number: AD9739; Manufacturer: Analog Devices; PartNumber: AD9739BBCZ; # DAC Outputs: 1; Max V+: 3.5V; Op Pwr Diss: 1.16W; Resolution (Bits): 14; Single Supply: Yes; DatasheetVersion: Rev.B; PackageVersion: 012006-0; PackageReference: BC-160-1; PackageDescription: 160-Ball Chip Scale Package Ball Grid Array [CSP_BGA]; Supplier 1: Digi-Key; Supplier Part Number 1: AD9739BBCZ-ND; Supplier 2: Farnell; Supplier Part Number 2: 2305697; Supplier 3: Newark; Supplier Part Number 3: 05R6613; Supplier 4: Mouser; Supplier Part Number 4: 584-AD9739BBCZ; Packing: Tray; RoHS: Y; Mounting Technology: Surface Mount; Code_JEDEC: MO-205-AE; ComponentLink1Description: Manufacturer URL; ComponentLink1URL: http://www.analog.com/en/index.html; ComponentLink2Description: Datasheet; ComponentLink2URL: http://www.analog.com/static/imported-files/data_sheets/AD9739.pdf; ComponentLink3Description: Package Specification; ComponentLink3URL: http://www.analog.com/static/imported-files/packages/31243239490197BC_160_1.pdf; ComponentLink4Description: Product URL; ComponentLink4URL: http://www.analog.com/en/digital-to-analog-converters/da-converters/ad9739/products/product.html
footprint BC-160-1 (BGA, 160-Leads, Body 12x12mm, Pitch 0.8mm)
part A pins: A7 IOUTN (out) "DAC Negative Current Output Source.", A8 IOUTP (out) "DAC Positive Current Output Source.", B7 IOUTN (out) "DAC Negative Current Output Source.", B8 IOUTP (out) "DAC Positive Current Output Source.", C7 IOUTN (out) "DAC Negative Current Output Source.", C8 IOUTP (out) "DAC Positive Current Output Source.", D7 IOUTN (out) "DAC Negative Current Output Source.", D8 IOUTP (out) "DAC Positive Current Output Source.", N1 DB0[0]P (in) "Port 0 Positive Data Input Bit 0.", N2 DB0[1]P (in) "Port 0 Positive Data Input Bit 1.", N3 DB0[2]P (in) "Port 0 Positive Data Input Bit 2.", N4 DB0[3]P (in) "Port 0 Positive Data Input Bit 3.", N5 DB0[4]P (in) "Port 0 Positive Data Input Bit 4.", N6 DB0[5]P (in) "Port 0 Positive Data Input Bit 5.", N7 DB0[6]P (in) "Port 0 Positive Data Input Bit 6.", N8 DB0[7]P (in) "Port 0 Positive Data Input Bit 7.", N9 DB0[8]P (in) "Port 0 Positive Data Input Bit 8.", N10 DB0[9]P (in) "Port 0 Positive Data Input Bit 9.", N11 DB0[10]P (in) "Port 0 Positive Data Input Bit 10.", N12 DB0[11]P (in) "Port 0 Positive Data Input Bit 11.", N13 DB0[12]P (in) "Port 0 Positive Data Input Bit 12.", N14 DB0[13]P (in) "Port 0 Negative Data Input Bit 13.", P1 DB0[0]N (in) "Port 0 Negative Data Input Bit 0.", P2 DB0[1]N (in) "Port 0 Negative Data Input Bit 1.", P3 DB0[2]N (in) "Port 0 Negative Data Input Bit 2.", P4 DB0[3]N (in) "Port 0 Negative Data Input Bit 3.", P5 DB0[4]N (in) "Port 0 Negative Data Input Bit 4.", P6 DB0[5]N (in) "Port 0 Negative Data Input Bit 5.", P7 DB0[6]N (in) "Port 0 Negative Data Input Bit 6.", P8 DB0[7]N (in) "Port 0 Negative Data Input Bit 7.", P9 DB0[8]N (in) "Port 0 Negative Data Input Bit 8.", P10 DB0[9]N (in) "Port 0 Negative Data Input Bit 9.", P11 DB0[10]N (in) "Port 0 Negative Data Input Bit 10.", P12 DB0[11]N (in) "Port 0 Negative Data Input Bit 11.", P13 DB0[12]N (in) "Port 0 Negative Data Input Bit 12.", P14 DB0[13]N (in) "Port 0 Negative Data Input Bit 13."
part B pins: L1 DB1[0]P (in) "Port 1 Positive Data Input Bit 0.", L2 DB1[1]P (in) "Port 1 Positive Data Input Bit 1.", L3 DB1[2]P (in) "Port 1 Positive Data Input Bit 2.", L4 DB1[3]P (in) "Port 1 Positive Data Input Bit 3.", L5 DB1[4]P (in) "Port 1 Positive Data Input Bit 4.", L6 DB1[5]P (in) "Port 1 Positive Data Input Bit 5.", L7 DB1[6]P (in) "Port 1 Positive Data Input Bit 6.", L8 DB1[7]P (in) "Port 1 Positive Data Input Bit 7.", L9 DB1[8]P (in) "Port 1 Positive Data Input Bit 8.", L10 DB1[9]P (in) "Port 1 Positive Data Input Bit 9.", L11 DB1[10]P (in) "Port 1 Positive Data Input Bit 10.", L12 DB1[11]P (in) "Port 1 Positive Data Input Bit 11.", L13 DB1[12]P (in) "Port 1 Positive Data Input Bit 12.", L14 DB1[13]P (in) "Port 1 Positive Data Input Bit 13.", M1 DB1[0]N (in) "Port 1 Negative Data Input Bit 0.", M2 DB1[1]N (in) "Port 1 Negative Data Input Bit 1.", M3 DB1[2]N (in) "Port 1 Negative Data Input Bit 2.", M4 DB1[3]N (in) "Port 1 Negative Data Input Bit 3.", M5 DB1[4]N (in) "Port 1 Negative Data Input Bit 4.", M6 DB1[5]N (in) "Port 1 Negative Data Input Bit 5.", M7 DB1[6]N (in) "Port 1 Negative Data Input Bit 6.", M8 DB1[7]N (in) "Port 1 Negative Data Input Bit 7.", M9 DB1[8]N (in) "Port 1 Negative Data Input Bit 8.", M10 DB1[9]N (in) "Port 1 Negative Data Input Bit 9.", M11 DB1[10]N (in) "Port 1 Negative Data Input Bit 10.", M12 DB1[11]N (in) "Port 1 Negative Data Input Bit 11.", M13 DB1[12]N (in) "Port 1 Negative Data Input Bit 12.", M14 DB1[13]N (in) "Port 1 Negative Data Input Bit 13."
part C pins: A14 NC "No Connect. Do not connect to this pin.", B14 I120 "Nominal 1.2 V Reference. Tie to analog ground via a 10 kO  resistor to generate a 120 uA reference current.", C3 DACCLK_N (in) "Negative DAC Clock Input (DACCLK)", C14 VREF (io) "Voltage Reference Input/Output. Decouple to VSSA with a  1 nF capacitor.", D3 DACCLK_P (in) "Positive DAC Clock Input (DACCLK)", D14 NC "Factory Test Pin. Do not connect to this pin.", F13 IRQ (oc) "Interrupt Request Open Drain Output. Active high. Pull up to  VDD33 with a 10 kO resistor.", F14 RESET (in) "Reset Input. Active high. Tie to VSS if unused.", G13 ~{CS} (in) "Serial Port Enable Input", G14 SDIO (io) "Serial Port Data Input/Output.", H13 SCLK (in) "Serial Port Clock Input.", H14 SDO (hiz) "Serial Port Data Output.", J1 SYNC_OUT_P (out) "Positive SYNC Output (SYNC_OUT)", J2 SYNC_OUT_N (out) "Negative SYNC Output (SYNC_OUT)", J13 DCO_P (out) "Positive Data Clock Output (DCO).", J14 DCO_N (out) "Negative Data Clock Output (DCO).", K1 SYNC_IN_P (in) "Positive SYNC Input (SYNC_IN)", K2 SYNC_IN_N (in) "Negative SYNC Input (SYNC_IN)", K13 DCI_P (in) "Positive Data Clock Input (DCI).", K14 DCI_N (in) "Negative Data Clock Input (DCI)."
part D pins: A1 VSSC (power) "Clock Supply Return.", A2 VSSC (power) "Clock Supply Return.", A3 VSSC (power) "Clock Supply Return.", A4 VSSC (power) "Clock Supply Return.", A5 VSSC (power) "Clock Supply Return.", A10 VDDA (power) "3.3 V Analog Supply Input", A11 VDDA (power) "3.3 V Analog Supply Input", A12 VSSA (power) "Analog Supply Return.", A13 VSSA (power) "Analog Supply Return.", B1 VSSC (power) "Clock Supply Return.", B2 VSSC (power) "Clock Supply Return.", B3 VSSC (power) "Clock Supply Return.", B4 VSSC (power) "Clock Supply Return.", B5 VSSC (power) "Clock Supply Return.", B10 VDDA (power) "3.3 V Analog Supply Input", B11 VDDA (power) "3.3 V Analog Supply Input", B12 VSSA (power) "Analog Supply Return.", B13 VSSA (power) "Analog Supply Return.", C1 VDDC (power) "1.8 V Clock Supply Input.", C2 VDDC (power) "1.8 V Clock Supply Input.", C4 VSSC (power) "Clock Supply Return.", C5 VSSC (power) "Clock Supply Return.", C10 VDDA (power) "3.3 V Analog Supply Input", C11 VDDA (power) "3.3 V Analog Supply Input", C12 VSSA (power) "Analog Supply Return.", C13 VSSA (power) "Analog Supply Return.", D1 VDDC (power) "1.8 V Clock Supply Input.", D2 VDDC (power) "1.8 V Clock Supply Input.", D4 VSSC (power) "Clock Supply Return.", D5 VSSC (power) "Clock Supply Return.", D10 VDDA (power) "3.3 V Analog Supply Input", D11 VDDA (power) "3.3 V Analog Supply Input", D12 VSSA (power) "Analog Supply Return.", D13 VSSA (power) "Analog Supply Return.", E1 VDDC (power) "1.8 V Clock Supply Input.", E2 VDDC (power) "1.8 V Clock Supply Input.", E3 VDDC (power) "1.8 V Clock Supply Input.", E4 VDDC (power) "1.8 V Clock Supply Input.", G1 VDD (power) "1.8 V Digital Supply. Input.", G2 VDD (power) "1.8 V Digital Supply. Input.", G3 VDD (power) "1.8 V Digital Supply. Input.", G4 VDD (power) "1.8 V Digital Supply. Input.", G11 VDD (power) "1.8 V Digital Supply. Input.", G12 VDD (power) "1.8 V Digital Supply. Input.", H1 VSS (power) "Digital Supply Return.", H2 VSS (power) "Digital Supply Return.", H3 VSS (power) "Digital Supply Return.", H4 VSS (power) "Digital Supply Return.", H11 VSS (power) "Digital Supply Return.", H12 VSS (power) "Digital Supply Return.", J3 VDD33 (power) "3.3 V Digital Supply Input.", J4 VDD33 (power) "3.3 V Digital Supply Input.", J11 VDD33 (power) "3.3 V Digital Supply Input.", J12 VDD33 (power) "3.3 V Digital Supply Input.", K3 VSS (power) "Digital Supply Return.", K4 VSS (power) "Digital Supply Return.", K11 VSS (power) "Digital Supply Return.", K12 VSS (power) "Digital Supply Return."
part E pins: A6 VSSA Shield (power) "Analog Supply Return Shield. Tie to VSSA at the DAC.", A9 VSSA Shield (power) "Analog Supply Return Shield. Tie to VSSA at the DAC.", B6 VSSA Shield (power) "Analog Supply Return Shield. Tie to VSSA at the DAC.", B9 VSSA Shield (power) "Analog Supply Return Shield. Tie to VSSA at the DAC.", C6 VSSA Shield (power) "Analog Supply Return Shield. Tie to VSSA at the DAC.", C9 VSSA Shield (power) "Analog Supply Return Shield. Tie to VSSA at the DAC.", D6 VSSA Shield (power) "Analog Supply Return Shield. Tie to VSSA at the DAC.", D9 VSSA Shield (power) "Analog Supply Return Shield. Tie to VSSA at the DAC.", E11 VSSA Shield (power) "Analog Supply Return Shield. Tie to VSSA at the DAC.", E12 VSSA Shield (power) "Analog Supply Return Shield. Tie to VSSA at the DAC.", E13 VSSA Shield (power) "Analog Supply Return Shield. Tie to VSSA at the DAC.", E14 VSSA Shield (power) "Analog Supply Return Shield. Tie to VSSA at the DAC.", F1 VSSA Shield (power) "Analog Supply Return Shield. Tie to VSSA at the DAC.", F2 VSSA Shield (power) "Analog Supply Return Shield. Tie to VSSA at the DAC.", F3 VSSA Shield (power) "Analog Supply Return Shield. Tie to VSSA at the DAC.", F4 VSSA Shield (power) "Analog Supply Return Shield. Tie to VSSA at the DAC.", F11 VSSA Shield (power) "Analog Supply Return Shield. Tie to VSSA at the DAC.", F12 VSSA Shield (power) "Analog Supply Return Shield. Tie to VSSA at the DAC."

## AD9739BBCZRL
designator U?
Single 14-Bit 2.5 Gsps RF Digital-to-Analog Converter, -40 to +85 degC, BC-160-1, Pb-Free, Reel; Generic Part Number: AD9739; Manufacturer: Analog Devices; PartNumber: AD9739BBCZRL; # DAC Outputs: 1; Max V+: 3.5V; Op Pwr Diss: 1.16W; Resolution (Bits): 14; Single Supply: Yes; DatasheetVersion: Rev.B; PackageVersion: 012006-0; PackageReference: BC-160-1; PackageDescription: 160-Ball Chip Scale Package Ball Grid Array [CSP_BGA]; Supplier 1: Digi-Key; Supplier Part Number 1: AD9739BBCZRL-ND; Supplier 2: Newark; Supplier Part Number 2: 05R6614; Supplier 3: Mouser; Supplier Part Number 3: 584-AD9739BBCZR; Packing: Reel; RoHS: Y; Mounting Technology: Surface Mount; Code_JEDEC: MO-205-AE; ComponentLink1Description: Manufacturer URL; ComponentLink1URL: http://www.analog.com/en/index.html; ComponentLink2Description: Datasheet; ComponentLink2URL: http://www.analog.com/static/imported-files/data_sheets/AD9739.pdf; ComponentLink3Description: Package Specification; ComponentLink3URL: http://www.analog.com/static/imported-files/packages/31243239490197BC_160_1.pdf; ComponentLink4Description: Product URL; ComponentLink4URL: http://www.analog.com/en/digital-to-analog-converters/da-converters/ad9739/products/product.html
footprint BC-160-1 (BGA, 160-Leads, Body 12x12mm, Pitch 0.8mm)
part A pins: A7 IOUTN (out) "DAC Negative Current Output Source.", A8 IOUTP (out) "DAC Positive Current Output Source.", B7 IOUTN (out) "DAC Negative Current Output Source.", B8 IOUTP (out) "DAC Positive Current Output Source.", C7 IOUTN (out) "DAC Negative Current Output Source.", C8 IOUTP (out) "DAC Positive Current Output Source.", D7 IOUTN (out) "DAC Negative Current Output Source.", D8 IOUTP (out) "DAC Positive Current Output Source.", N1 DB0[0]P (in) "Port 0 Positive Data Input Bit 0.", N2 DB0[1]P (in) "Port 0 Positive Data Input Bit 1.", N3 DB0[2]P (in) "Port 0 Positive Data Input Bit 2.", N4 DB0[3]P (in) "Port 0 Positive Data Input Bit 3.", N5 DB0[4]P (in) "Port 0 Positive Data Input Bit 4.", N6 DB0[5]P (in) "Port 0 Positive Data Input Bit 5.", N7 DB0[6]P (in) "Port 0 Positive Data Input Bit 6.", N8 DB0[7]P (in) "Port 0 Positive Data Input Bit 7.", N9 DB0[8]P (in) "Port 0 Positive Data Input Bit 8.", N10 DB0[9]P (in) "Port 0 Positive Data Input Bit 9.", N11 DB0[10]P (in) "Port 0 Positive Data Input Bit 10.", N12 DB0[11]P (in) "Port 0 Positive Data Input Bit 11.", N13 DB0[12]P (in) "Port 0 Positive Data Input Bit 12.", N14 DB0[13]P (in) "Port 0 Negative Data Input Bit 13.", P1 DB0[0]N (in) "Port 0 Negative Data Input Bit 0.", P2 DB0[1]N (in) "Port 0 Negative Data Input Bit 1.", P3 DB0[2]N (in) "Port 0 Negative Data Input Bit 2.", P4 DB0[3]N (in) "Port 0 Negative Data Input Bit 3.", P5 DB0[4]N (in) "Port 0 Negative Data Input Bit 4.", P6 DB0[5]N (in) "Port 0 Negative Data Input Bit 5.", P7 DB0[6]N (in) "Port 0 Negative Data Input Bit 6.", P8 DB0[7]N (in) "Port 0 Negative Data Input Bit 7.", P9 DB0[8]N (in) "Port 0 Negative Data Input Bit 8.", P10 DB0[9]N (in) "Port 0 Negative Data Input Bit 9.", P11 DB0[10]N (in) "Port 0 Negative Data Input Bit 10.", P12 DB0[11]N (in) "Port 0 Negative Data Input Bit 11.", P13 DB0[12]N (in) "Port 0 Negative Data Input Bit 12.", P14 DB0[13]N (in) "Port 0 Negative Data Input Bit 13."
part B pins: L1 DB1[0]P (in) "Port 1 Positive Data Input Bit 0.", L2 DB1[1]P (in) "Port 1 Positive Data Input Bit 1.", L3 DB1[2]P (in) "Port 1 Positive Data Input Bit 2.", L4 DB1[3]P (in) "Port 1 Positive Data Input Bit 3.", L5 DB1[4]P (in) "Port 1 Positive Data Input Bit 4.", L6 DB1[5]P (in) "Port 1 Positive Data Input Bit 5.", L7 DB1[6]P (in) "Port 1 Positive Data Input Bit 6.", L8 DB1[7]P (in) "Port 1 Positive Data Input Bit 7.", L9 DB1[8]P (in) "Port 1 Positive Data Input Bit 8.", L10 DB1[9]P (in) "Port 1 Positive Data Input Bit 9.", L11 DB1[10]P (in) "Port 1 Positive Data Input Bit 10.", L12 DB1[11]P (in) "Port 1 Positive Data Input Bit 11.", L13 DB1[12]P (in) "Port 1 Positive Data Input Bit 12.", L14 DB1[13]P (in) "Port 1 Positive Data Input Bit 13.", M1 DB1[0]N (in) "Port 1 Negative Data Input Bit 0.", M2 DB1[1]N (in) "Port 1 Negative Data Input Bit 1.", M3 DB1[2]N (in) "Port 1 Negative Data Input Bit 2.", M4 DB1[3]N (in) "Port 1 Negative Data Input Bit 3.", M5 DB1[4]N (in) "Port 1 Negative Data Input Bit 4.", M6 DB1[5]N (in) "Port 1 Negative Data Input Bit 5.", M7 DB1[6]N (in) "Port 1 Negative Data Input Bit 6.", M8 DB1[7]N (in) "Port 1 Negative Data Input Bit 7.", M9 DB1[8]N (in) "Port 1 Negative Data Input Bit 8.", M10 DB1[9]N (in) "Port 1 Negative Data Input Bit 9.", M11 DB1[10]N (in) "Port 1 Negative Data Input Bit 10.", M12 DB1[11]N (in) "Port 1 Negative Data Input Bit 11.", M13 DB1[12]N (in) "Port 1 Negative Data Input Bit 12.", M14 DB1[13]N (in) "Port 1 Negative Data Input Bit 13."
part C pins: A14 NC "No Connect. Do not connect to this pin.", B14 I120 "Nominal 1.2 V Reference. Tie to analog ground via a 10 kO  resistor to generate a 120 uA reference current.", C3 DACCLK_N (in) "Negative DAC Clock Input (DACCLK)", C14 VREF (io) "Voltage Reference Input/Output. Decouple to VSSA with a  1 nF capacitor.", D3 DACCLK_P (in) "Positive DAC Clock Input (DACCLK)", D14 NC "Factory Test Pin. Do not connect to this pin.", F13 IRQ (oc) "Interrupt Request Open Drain Output. Active high. Pull up to  VDD33 with a 10 kO resistor.", F14 RESET (in) "Reset Input. Active high. Tie to VSS if unused.", G13 ~{CS} (in) "Serial Port Enable Input", G14 SDIO (io) "Serial Port Data Input/Output.", H13 SCLK (in) "Serial Port Clock Input.", H14 SDO (hiz) "Serial Port Data Output.", J1 SYNC_OUT_P (out) "Positive SYNC Output (SYNC_OUT)", J2 SYNC_OUT_N (out) "Negative SYNC Output (SYNC_OUT)", J13 DCO_P (out) "Positive Data Clock Output (DCO).", J14 DCO_N (out) "Negative Data Clock Output (DCO).", K1 SYNC_IN_P (in) "Positive SYNC Input (SYNC_IN)", K2 SYNC_IN_N (in) "Negative SYNC Input (SYNC_IN)", K13 DCI_P (in) "Positive Data Clock Input (DCI).", K14 DCI_N (in) "Negative Data Clock Input (DCI)."
part D pins: A1 VSSC (power) "Clock Supply Return.", A2 VSSC (power) "Clock Supply Return.", A3 VSSC (power) "Clock Supply Return.", A4 VSSC (power) "Clock Supply Return.", A5 VSSC (power) "Clock Supply Return.", A10 VDDA (power) "3.3 V Analog Supply Input", A11 VDDA (power) "3.3 V Analog Supply Input", A12 VSSA (power) "Analog Supply Return.", A13 VSSA (power) "Analog Supply Return.", B1 VSSC (power) "Clock Supply Return.", B2 VSSC (power) "Clock Supply Return.", B3 VSSC (power) "Clock Supply Return.", B4 VSSC (power) "Clock Supply Return.", B5 VSSC (power) "Clock Supply Return.", B10 VDDA (power) "3.3 V Analog Supply Input", B11 VDDA (power) "3.3 V Analog Supply Input", B12 VSSA (power) "Analog Supply Return.", B13 VSSA (power) "Analog Supply Return.", C1 VDDC (power) "1.8 V Clock Supply Input.", C2 VDDC (power) "1.8 V Clock Supply Input.", C4 VSSC (power) "Clock Supply Return.", C5 VSSC (power) "Clock Supply Return.", C10 VDDA (power) "3.3 V Analog Supply Input", C11 VDDA (power) "3.3 V Analog Supply Input", C12 VSSA (power) "Analog Supply Return.", C13 VSSA (power) "Analog Supply Return.", D1 VDDC (power) "1.8 V Clock Supply Input.", D2 VDDC (power) "1.8 V Clock Supply Input.", D4 VSSC (power) "Clock Supply Return.", D5 VSSC (power) "Clock Supply Return.", D10 VDDA (power) "3.3 V Analog Supply Input", D11 VDDA (power) "3.3 V Analog Supply Input", D12 VSSA (power) "Analog Supply Return.", D13 VSSA (power) "Analog Supply Return.", E1 VDDC (power) "1.8 V Clock Supply Input.", E2 VDDC (power) "1.8 V Clock Supply Input.", E3 VDDC (power) "1.8 V Clock Supply Input.", E4 VDDC (power) "1.8 V Clock Supply Input.", G1 VDD (power) "1.8 V Digital Supply. Input.", G2 VDD (power) "1.8 V Digital Supply. Input.", G3 VDD (power) "1.8 V Digital Supply. Input.", G4 VDD (power) "1.8 V Digital Supply. Input.", G11 VDD (power) "1.8 V Digital Supply. Input.", G12 VDD (power) "1.8 V Digital Supply. Input.", H1 VSS (power) "Digital Supply Return.", H2 VSS (power) "Digital Supply Return.", H3 VSS (power) "Digital Supply Return.", H4 VSS (power) "Digital Supply Return.", H11 VSS (power) "Digital Supply Return.", H12 VSS (power) "Digital Supply Return.", J3 VDD33 (power) "3.3 V Digital Supply Input.", J4 VDD33 (power) "3.3 V Digital Supply Input.", J11 VDD33 (power) "3.3 V Digital Supply Input.", J12 VDD33 (power) "3.3 V Digital Supply Input.", K3 VSS (power) "Digital Supply Return.", K4 VSS (power) "Digital Supply Return.", K11 VSS (power) "Digital Supply Return.", K12 VSS (power) "Digital Supply Return."
part E pins: A6 VSSA Shield (power) "Analog Supply Return Shield. Tie to VSSA at the DAC.", A9 VSSA Shield (power) "Analog Supply Return Shield. Tie to VSSA at the DAC.", B6 VSSA Shield (power) "Analog Supply Return Shield. Tie to VSSA at the DAC.", B9 VSSA Shield (power) "Analog Supply Return Shield. Tie to VSSA at the DAC.", C6 VSSA Shield (power) "Analog Supply Return Shield. Tie to VSSA at the DAC.", C9 VSSA Shield (power) "Analog Supply Return Shield. Tie to VSSA at the DAC.", D6 VSSA Shield (power) "Analog Supply Return Shield. Tie to VSSA at the DAC.", D9 VSSA Shield (power) "Analog Supply Return Shield. Tie to VSSA at the DAC.", E11 VSSA Shield (power) "Analog Supply Return Shield. Tie to VSSA at the DAC.", E12 VSSA Shield (power) "Analog Supply Return Shield. Tie to VSSA at the DAC.", E13 VSSA Shield (power) "Analog Supply Return Shield. Tie to VSSA at the DAC.", E14 VSSA Shield (power) "Analog Supply Return Shield. Tie to VSSA at the DAC.", F1 VSSA Shield (power) "Analog Supply Return Shield. Tie to VSSA at the DAC.", F2 VSSA Shield (power) "Analog Supply Return Shield. Tie to VSSA at the DAC.", F3 VSSA Shield (power) "Analog Supply Return Shield. Tie to VSSA at the DAC.", F4 VSSA Shield (power) "Analog Supply Return Shield. Tie to VSSA at the DAC.", F11 VSSA Shield (power) "Analog Supply Return Shield. Tie to VSSA at the DAC.", F12 VSSA Shield (power) "Analog Supply Return Shield. Tie to VSSA at the DAC."